# EAGLE library part 43650-0503 (library con-molex)
5 Positions Header Connector 0.118" (3.00mm) Through Hole, Right Angle
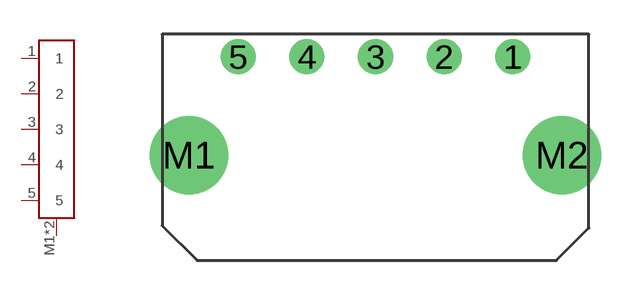
[diagram p3: symbol with the pads of 43650-0503; footprint 43650-0503]

Designator prefix J

## 43650-0503 (ASSOC: WM1848-ND; DIGIKEY: WM1873-ND; MFR: Molex; MPN: 43650-0503)  [43650-0503]
1  1
2  2
3  3
4  4
5  5
M1  MNT
M2  MNT

## Footprint 43650-0503 (pad centres in mm)
drill 1.02: 1 6,4.32; 2 3,4.32; 3 0,4.32; 4 -3,4.32; 5 -6,4.32
drill 2.41: M1 -8.15,0; M2 8.15,0